# EAGLE library part IV-16 (library untitled1)
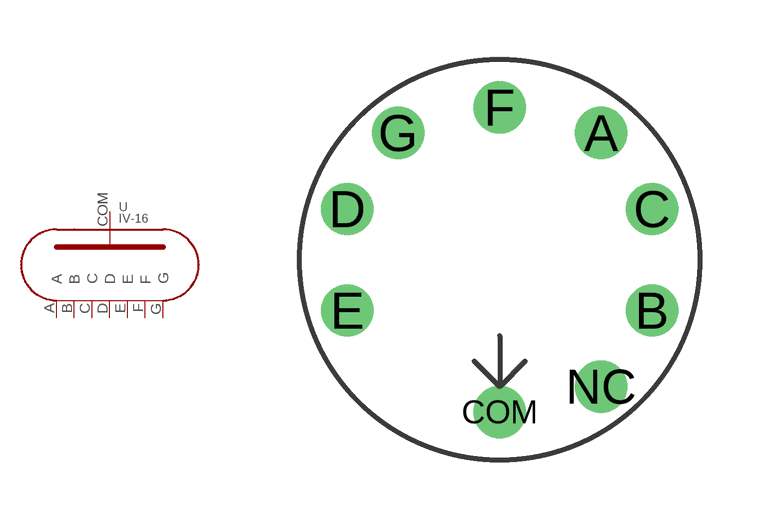
[diagram p2: symbol with the pads of IV-17_COMP; footprint IV-17_COMP]

Designator prefix -

## IV-16  [IV-17_COMP]
A  A  pas
B  B  pas
C  C  pas
COM  COM  pas
D  D  pas
E  E  pas
F  F  pas
G  G  pas

## Footprint IV-17_COMP (pad centres in mm)
drill 0.8: A 2.54,3.175; B 3.81,-1.27; C 3.81,1.27; COM 0,-3.81; D -3.81,1.27; E -3.81,-1.27; F 0,3.81; G -2.54,3.175; NC 2.54,-3.175